# Altium footprint library Header-2mm-1X2-M-V.PcbLib: 1 footprints
Each footprint in its own frame and in the unit in brackets; x right, y up, seen from the top. Pads: shape width x height; smd on the part's side, far side on the other; paste and mask are expansions set on the pad; w line width, h text height; cw(c..) or ccw(c..) is an arc to the next point about the centre after c.
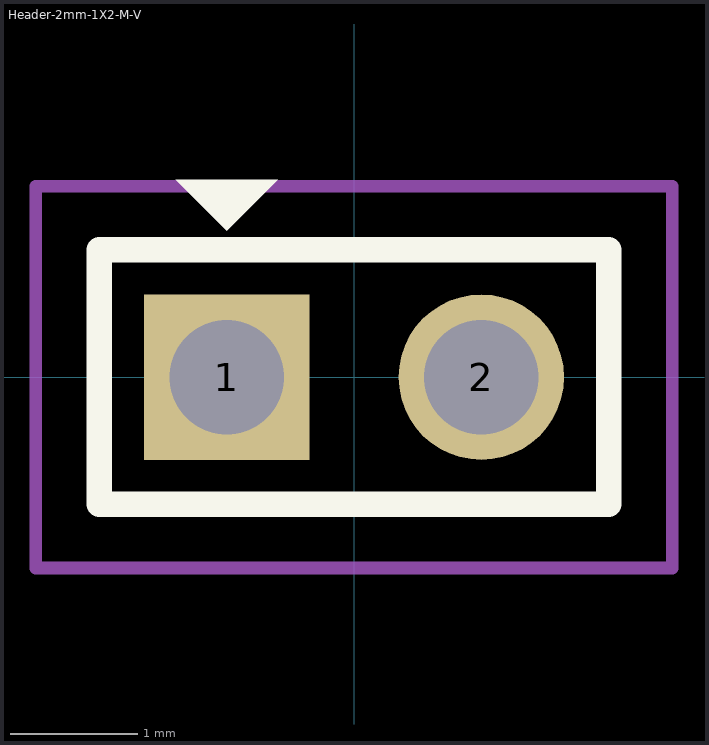
[diagram p0: the footprint, top view; thin cyan lines are the x and y axes]

## Header-2mm-1X2-M-V [mm]
pads (2):
  rect 1.3x1.3 hole 0.9: 1(-1,0)
  round 1.3 hole 0.9: 2(1,0)
Top Overlay:
  region: -1.4,1.55 -0.6,1.55 -1,1.15
  lines w0.2: -2,-1 2,-1 2,1 -2,1 -2,-1
Top Courtyard:
  lines w0.1: -2.5,-1.5 -2.5,1.5 2.5,1.5 2.5,-1.5 -2,-1.5 -2.5,-1.5
3D body "MTMM-102-03-F-S-150.stp": height 5.31, standoff -2.36, extent -2,-1 2,1